# Altium integrated library Amplifiers_001.IntLib: 2 symbols
Pins are listed as number, name and electrical type; pins without a type are passive.

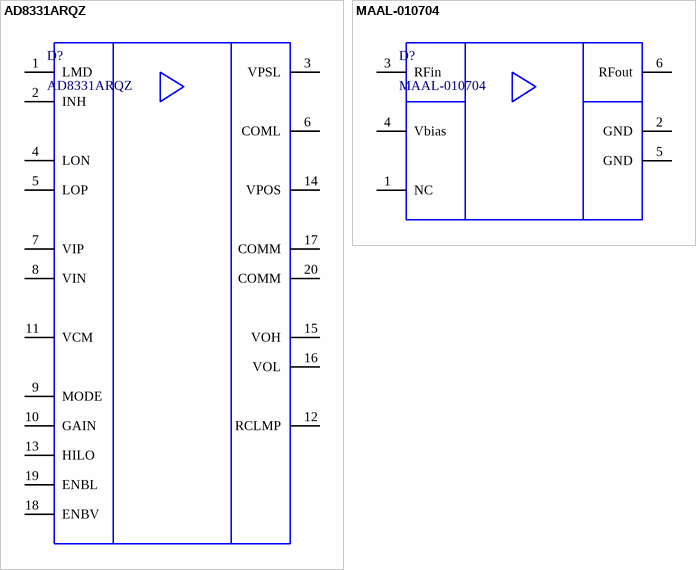
[diagram p0: symbols AD8331ARQZ to MAAL-010704]

## AD8331ARQZ
designator D?
AD8331ARQZ - Ultralow VGAs with Preamplifier and Programmable Rin; Manufacturer: Analog Devices; ВП Описание: Микросхема_AD8331ARQZ; Наименование: Микросхема; PartNumber: AD8331ARQZ; Manufacturer P/N: AD8331ARQZ; ProductCode: *; StandartDoc: *; Описание: *; Part: AD8331ARQZ; ComponentLink1Description: Manufacturer; ComponentLink2Description: Datasheet; ComponentLink3Description: DatasheetLocal; ComponentLink3URL: D:\Work\Altium_Library\NewArcomLibrary\Datasheets\; Vender: Analog Devices; Value: AD8331ARQZ
footprint QSOP-20
pins: 1 LMD, 2 INH, 3 VPSL, 4 LON, 5 LOP, 6 COML, 7 VIP, 8 VIN, 9 MODE, 10 GAIN, 11 VCM, 12 RCLMP, 13 HILO, 14 VPOS, 15 VOH, 16 VOL, 17 COMM, 18 ENBV, 19 ENBL, 20 COMM

## MAAL-010704
designator D?
Low Noise Amplifier 0.1-3.5 GHz; Manufacturer: M/A-COM Technology Solutions; Manufacturer P/N: MAAL-010704-TR3000; ВП Описание: Микросхема_MAAL-010704; Наименование: Микросхема; Vender: Macom; PartNumber: MAAL-010704; ProductCode: *; StandartDoc: *; Описание: *; Part: MAAL-010704-TR3000; ComponentLink1Description: Manufacturer; ComponentLink1URL: https://www.macom.com/; ComponentLink2Description: Datasheet; ComponentLink2URL: https://cdn.macom.com/datasheets/MAAL-010704.pdf; ComponentLink3Description: DatasheetLocal; ComponentLink3URL: D:\Work\Altium_Library\NewArcomLibrary\Datasheets\Macom\MAAL-010704.pdf; Value: MAAL-010704
footprint SOT-363 (SOT23, 6-Leads, Body 2x1.25 mm, Pitch 0.65 mm)
pins: 1 NC, 2 GND, 3 RFin, 4 Vbias, 5 GND, 6 RFout